# EAGLE library part 145638009211859+ (library 145638009211859_)
9 Position Memory Card Normal Top PCB
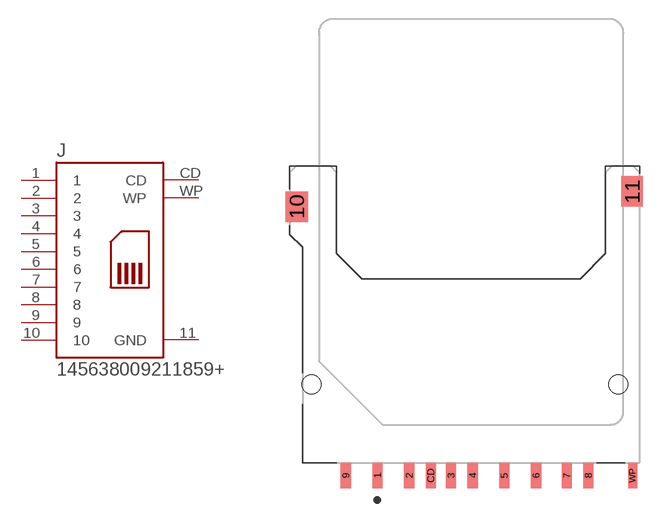
[diagram p0: symbol with the pads of CONN_145638009211859+; footprint CONN_145638009211859+]

Designator prefix J

## 145638009211859+ (Description: 12 (9 + 3) Position Card Connector Secure Digital - SD Surface Mount, Right Angle; Digi-Key_Part_Number: 478-4059-1-ND; MF: Kyocera International; MP: 145638009211859+; Package: None; Purchase-URL: https://pricing.snapeda.com/search/part/145638009211859+/?ref=eda)  [CONN_145638009211859+]
1  1  pas
2  2  pas
3  3  pas
4  4  pas
5  5  pas
6  6  pas
7  7  pas
8  8  pas
9  9  pas
10  10  pas
11  GND  pwr
CD  CD  pas
WP  WP  pas

## Footprint CONN_145638009211859+ (pad centres in mm)
smd 0.8 x 2: 1 -6.88,-12.7; 2 -4.38,-12.7; 3 -1.08,-12.7; 4 0.62,-12.7; 5 3.12,-12.7; 6 5.62,-12.7; 7 8.05,-12.7; 8 9.75,-12.7; 9 -9.38,-12.7; CD -2.68,-12.7
smd 1.8 x 2.4: 10 -13.25,8.5
smd 1.7 x 2.4: 11 13.2,9.7
smd 0.7 x 2: WP 13.24,-12.7
hole 1.5 at -12.1,-5.5
hole 1.5 at 12.1,-5.5